# Altium schematic symbol library analog_digital.SchLib: 1 symbol
Pins are listed as number, name and electrical type; pins without a type are passive.

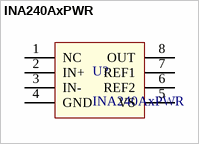
[diagram p0: symbol INA240AxPWR]

## INA240AxPWR
designator U?
footprint TSSOP8 (Small Outline Pkg (SOP), 0.65 mm pitch; 8 pin, 3.00 mm L X 4.40 mm W X 1.20 mm H body)
pins: 1 NC, 2 IN+, 3 IN-, 4 GND, 5 VS, 6 REF2, 7 REF1, 8 OUT